# Altium footprint library B6V2.PcbLib: 21 footprints (part 2 of 2)
Each footprint in its own frame and in the unit in brackets; x right, y up, seen from the top. Pads: shape width x height; smd on the part's side, far side on the other; paste and mask are expansions set on the pad; w line width, h text height; cw(c..) or ccw(c..) is an arc to the next point about the centre after c.
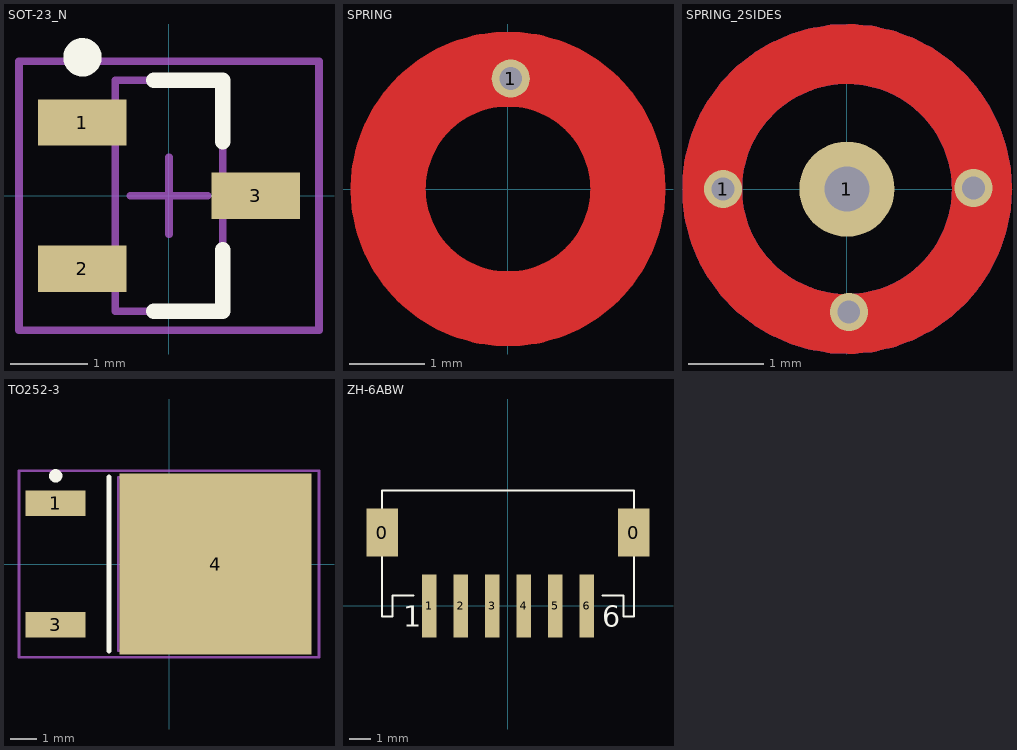
[diagram p1: the footprints below, top view; thin cyan lines are the x and y axes]

## SOT-23_N [mm] "SOT23, 3-Leads, Body 2.9x1.3mm, Pitch 0.95mm, Lead Span 2.5mm, IPC Medium Density"
height 1.1
pads (3):
  rect 1.15x0.6 smd: 1(-1.125,0.95) 2(-1.125,-0.95) 3(1.125,0)
Top Overlay:
  circle w0.25: c-1.125,1.8 r0.125
  lines w0.2: -0.2,-1.5 0.7,-1.5 0.7,-0.7 ; -0.2,1.5 0.7,1.5 0.7,0.7
Mechanical 13:
  lines w0.1: -0.7,-1.5 0.7,-1.5 0.7,1.5 -0.7,1.5 -0.7,-1.5
Mechanical 15:
  lines w0.1: -0.5,0 0.5,0 ; 0,-0.5 0,0.5 ; -1.95,-1.75 1.95,-1.75 1.95,1.75 -1.95,1.75 -1.95,-1.75
3D body: height 1.1, standoff 0, extent -0.7,-1.5 0.7,1.5

## SPRING [mil]
height 393.7
pads (1):
  round 20 hole 12.01: 1(1.5,58)
Top Layer:
  circle w39.37: c0.05,0.03 r62.99
Top Solder:
  circle w39.37: c0.05,0.03 r62.99
Mechanical 1:
  circle w5: c0.05,0.03 r78.74

## SPRING_2SIDES [mil]
height 393.7
pads (2):
  round 20 hole 12.01: 1(-65,0)
  round 50 hole 23.62: 1(0,0)
via 1,-64.5 diameter 20 hole 12
via 66.5,0.5 diameter 20 hole 12
Top Layer:
  circle w31.5: c0.05,0.03 r70.87
Bottom Layer:
  circle w31.5: c0.05,0.03 r70.87
Top Solder:
  circle w31.5: c0.05,0.03 r70.87
Bottom Solder:
  circle w31.5: c0.05,0.03 r70.87
Mechanical 1:
  circle w5: c0.05,0.03 r9.84
  circle w5: c0.05,0.03 r78.74

## TO252-3 [mm] "D-PAK, 3-Pads, Body 5.5x6.5mm (max), IPC Medium Density"
height 2.38
pads (3):
  rect 2.25x0.95 smd: 1(-4.25,2.28) 3(-4.25,-2.28)
  rect 7.2x6.8 smd: 4(1.75,0)
Top Overlay:
  circle w0.25: c-4.25,3.305 r0.125
  lines w0.2: -2.25,-3.25 -2.25,3.25
Mechanical 13:
  lines w0.1: -1.9,-3.25 -1.9,3.25 3.6,3.25 3.6,-3.25 -1.9,-3.25
Mechanical 15:
  lines w0.1: -0.5,0 0.5,0 ; 0,-0.5 0,0.5 ; -5.625,-3.5 -5.625,3.5 5.625,3.5 5.625,-3.5 -5.625,-3.5
3D body: height 2.38, standoff 0.5, extent -1.9,-3.25 3.6,3.25

## ZH-6ABW [mm]
height 0.93
pads (8):
  rect 1.5x2.3 smd: 0(-6,3.5) 0(6,3.5)
  rect 0.7x3 smd: 1(-3.75,0) 2(-2.25,0) 3(-0.75,0) 4(0.75,0) 5(2.25,0) 6(3.75,0)
Top Overlay:
  lines w0.1: -4.5,0.5 -5.5,0.5 -5.5,-0.5 -6,-0.5 -6,5.5 6,5.5 6,-0.5 5.5,-0.5 5.5,0.5 4.5,0.5
  text "6" at 4.5,-1 h1
  text "1" at -5,-1 h1